# Altium schematic symbol library Schlib1.SchLib: 4 symbols
Pins are listed as number, name and electrical type; pins without a type are passive.

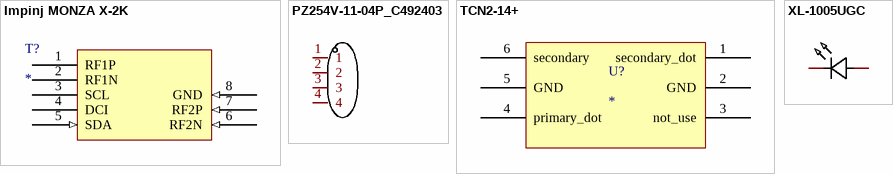
[diagram p0: symbols Impinj MONZA X-2K to XL-1005UGC]

## Impinj MONZA X-2K
designator T?
Impinj MONZA X-2K RFID tag chip
footprint IPJX2K
pins: 1 RF1P, 2 RF1N, 3 SCL, 4 DCI, 5 SDA (in), 6 RF2N (in), 7 RF2P (in), 8 GND (in)

## PZ254V-11-04P_C492403
designator H??  (value not drawn)
Manufacturer: XFCN(兴飞); Add into BOM: yes; Pitch: 2.54mm; Pin Structure: 1x4P; Circluar Pins/Square Pins: 方针; Name: PZ254V-11-04P; Symbol: PZ254V-11-04P; Device: PZ254V-11-04P_C492403; LCSC Part Name: 2.54mm 1x4P 直插 方针; Supplier Part: C492403; Manufacturer Part: PZ254V-11-04P; Supplier Footprint: 直插,P=2.54mm; JLCPCB Part Class: Extended Part; Datasheet: https://atta.szlcsc.com/upload/public/pdf/source/20200309/C492403_F9F19131791D08044AD4F84F8E751A34.pdf; Supplier: LCSC; Convert to PCB: yes; Number of Rows: 单排; Number of Pins: 4; Row Spacing: -; Mounting Type: 直插; Current Rating (Max): -; Voltage Rating (Max): -; Length of Mating Pin: 6mm; Insulation Height: 2.5mm; Length of End Connection Pin: 3mm; Contact Material: 黄铜; Contact Plating: -; Operating Temperature Range: -40℃~+105℃; Color: 黑色
footprint HDR-TH_4P-P2.54-V-M
3D model HDR-TH_4P-P2.54-M-LI-1X4P
pins: 1, 2, 3, 4

## TCN2-14+
designator U?
balun 700MHz to 1400MHz 1:1
footprint FV1206-1
pins: 1 secondary_dot, 2 GND, 3 not_use, 4 primary_dot, 5 GND, 6 secondary

## XL-1005UGC
designator LED??  (value not drawn)
正贴发光二极管 翠绿; Manufacturer: XINGLIGHT(成兴光); Symbol: XL-1005UGC_C2856703; Add into BOM: yes; Lens Color: 无色透明; Dominant Wavelength: 516nm; Peak Wavelength: 531nm; Forward Current: 25mA; Power Dissipation: 80mW; Viewing Angle: 120°; Mounting Sytle: 正贴; Name: XL-1005UGC; Device: XL-1005UGC; LCSC Part Name: 翠绿 516nm 正贴; Supplier Part: C2856703; Manufacturer Part: XL-1005UGC; Supplier Footprint: 0402; JLCPCB Part Class: Extended Part; Datasheet: https://atta.szlcsc.com/upload/public/pdf/source/20221102/FF8D6BC2225363A60A01D46BB802F217.pdf; Supplier: LCSC; Convert to PCB: yes; Emitted Color: 翠绿; Color Temperature: -; Operating Temperature: -30℃~+85℃
footprint LED0402-RD_GREEN
3D model LED0402_L1.0-W0.5-H0.2
pins: 1 K, 2 A